# EAGLE library part VV12 (library trafo)
TRANSFORMER 1 primary winding, 2 secondary windings BLOCK
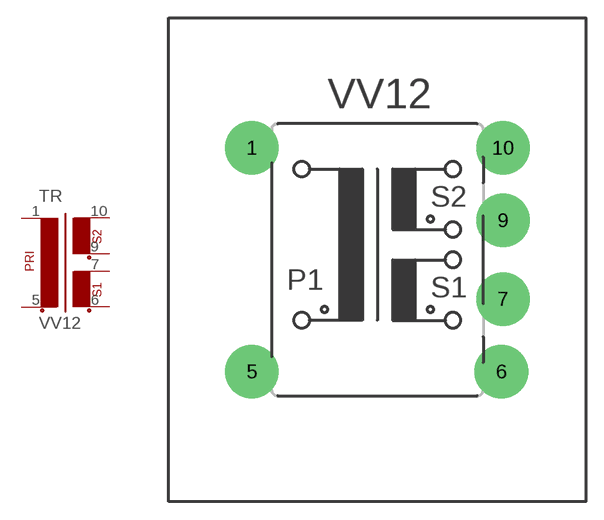
[diagram p25: symbol with the pads of VV12; footprint VV12]

Designator prefix TR

## VV12  [VV12]
1  1  pas
5  2  pas
6  3  pas
7  4  pas
9  5  pas
10  6  pas

## Footprint VV12 (pad centres in mm)
TRANSFORMER 1 primary winding, 2 secondary windings
drill 1.3 pad 4.5 round: 1 -10.541,9.398; 5 -10.541,-9.398; 6 10.414,-9.398; 7 10.541,-3.302; 9 10.541,3.302; 10 10.541,9.398